# EAGLE library part MAXREFDES98 (library CameraBoard_Library)
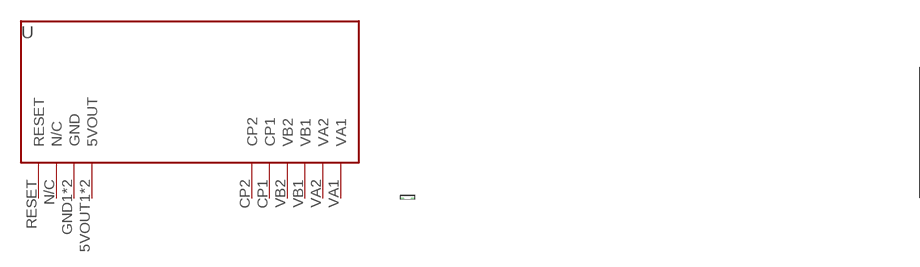
[diagram p0: symbol with the pads of MAXREFDES98; footprint MAXREFDES98]

Designator prefix -

## MAXREFDES98  [MAXREFDES98]
5VOUT1  5VOUT
5VOUT2  5VOUT
CP1  CP1
CP2  CP2
GND1  GND
GND2  GND
N/C  N/C
RESET  RESET
VA1  VA1
VA2  VA2
VB1  VB1
VB2  VB2

## Footprint MAXREFDES98 (pad centres in mm)
drill 0.8: 5VOUT1 11.6,4; CP1 44.4,4; CP2 42,4; GND1 6.8,4; GND2 9.2,4; N/C 4.4,4; RESET 2,4; VA2 51.6,4; VB1 49.2,4; VB2 46.8,4
drill 0.8 square: 5VOUT2 14,4; VA1 54,4